# EAGLE library part N2534-6V0C-RB-WF (library 3M_By_element14_Batch_1)
Header
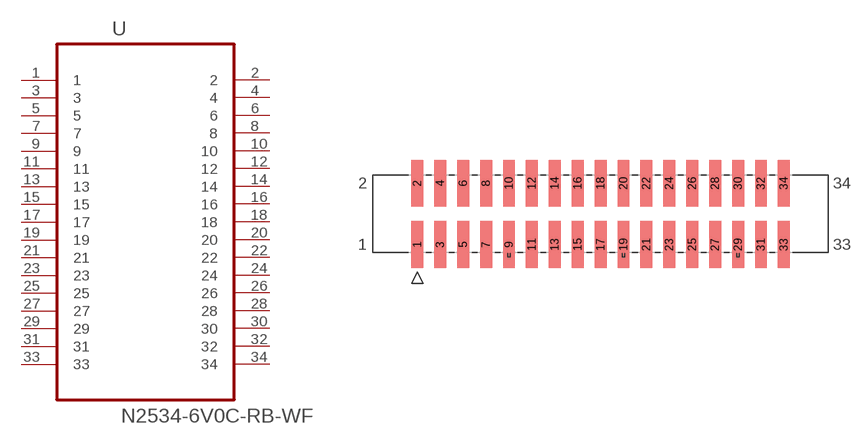
[diagram p86: symbol with the pads of 3M_N2534-6V0C-RB-WF; footprint 3M_N2534-6V0C-RB-WF]

Designator prefix U

## N2534-6V0C-RB-WF (MPN: N2534-6V0C-RB-WF; OC_FARNELL: -; OC_NEWARK: 34P5361; PACKAGE: Header-34; SUPPLIER: 3M)  [3M_N2534-6V0C-RB-WF]
1  1  pas
2  2  pas
3  3  pas
4  4  pas
5  5  pas
6  6  pas
7  7  pas
8  8  pas
9  9  pas
10  10  pas
11  11  pas
12  12  pas
13  13  pas
14  14  pas
15  15  pas
16  16  pas
17  17  pas
18  18  pas
19  19  pas
20  20  pas
21  21  pas
22  22  pas
23  23  pas
24  24  pas
25  25  pas
26  26  pas
27  27  pas
28  28  pas
29  29  pas
30  30  pas
31  31  pas
32  32  pas
33  33  pas
34  34  pas

## Footprint 3M_N2534-6V0C-RB-WF (pad centres in mm)
smd 1.321 x 5.182: 1 -20.32,-3.404; 2 -20.32,3.404; 3 -17.78,-3.404; 4 -17.78,3.404; 5 -15.24,-3.404; 6 -15.24,3.404; 7 -12.7,-3.404; 8 -12.7,3.404; 9 -10.16,-3.404; 10 -10.16,3.404; 11 -7.62,-3.404; 12 -7.62,3.404; 13 -5.08,-3.404; 14 -5.08,3.404; 15 -2.54,-3.404; 16 -2.54,3.404; 17 0,-3.404; 18 0,3.404; 19 2.54,-3.404; 20 2.54,3.404; 21 5.08,-3.404; 22 5.08,3.404; 23 7.62,-3.404; 24 7.62,3.404; 25 10.16,-3.404; 26 10.16,3.404; 27 12.7,-3.404; 28 12.7,3.404; 29 15.24,-3.404; 30 15.24,3.404; 31 17.78,-3.404; 32 17.78,3.404; 33 20.32,-3.404; 34 20.32,3.404